# EAGLE library part ?**4(1206) (library resistors)
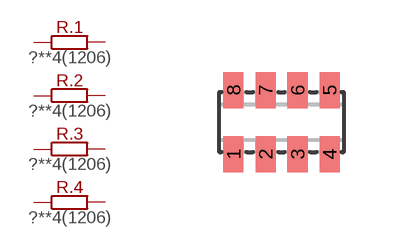
[diagram p1: symbol with the pads of R-0603-X4; footprint R-0603-X4]

Designator prefix R; gates .1=R .2=R .3=R .4=R

## 10K4(1206) (MOUSER: 774-742C083103JP)  [R-0603-X4]
1  .1:1  pas
2  .2:1  pas
3  .3:1  pas
4  .4:1  pas
5  .4:2  pas
6  .3:2  pas
7  .2:2  pas
8  .1:2  pas

## Footprint R-0603-X4 (pad centres in mm)
Chip Resistor Array Source: http://www.ctscorp.com/components/Datasheets/CTSChipArrayDs.pdf
smd 0.5 x 0.9: 1 -1.2,-0.8; 2 -0.4,-0.8; 3 0.4,-0.8; 4 1.2,-0.8; 5 1.2,0.8; 6 0.4,0.8; 7 -0.4,0.8; 8 -1.2,0.8